# EAGLE library part OPAMP-DUAL (library MyLibrary)
DUAL operational Amplifier
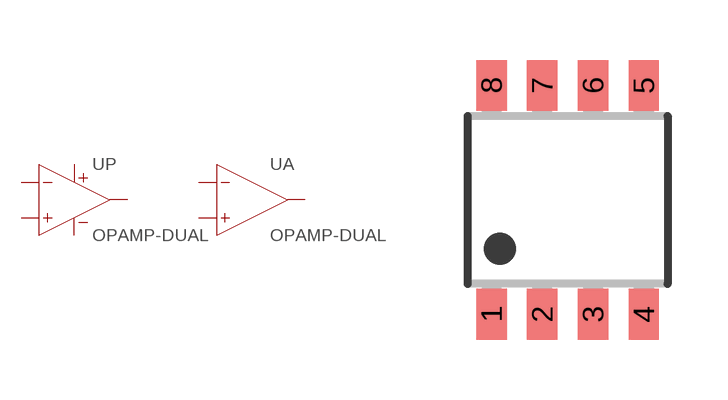
[diagram p9: symbol with the pads of SOP8; footprint SOP8]

Designator prefix U; gates P=OPAMP-P A=OPAMP

## OPAMP-DUAL-SOP8  [SOP8]
1  P:OUT  pas
2  P:IN-  pas
3  P:IN+  pas
4  P:VSS  pas
5  A:IN+  pas
6  A:IN-  pas
7  A:OUT  pas
8  P:VDD  pas

## Footprint SOP8 (pad centres in mm)
Small Outline Package 8 8P2S-A Plastic 8pin 225mil SOP Source: Mitsubishi M5218AL/P/FP
smd 0.76 x 1.27: 1 -1.905,-2.86; 2 -0.635,-2.86; 3 0.635,-2.86; 4 1.905,-2.86; 5 1.905,2.86; 6 0.635,2.86; 7 -0.635,2.86; 8 -1.905,2.86